# EAGLE library part CC3100MOD (library vincent)
TI CC3000 WiFi Module
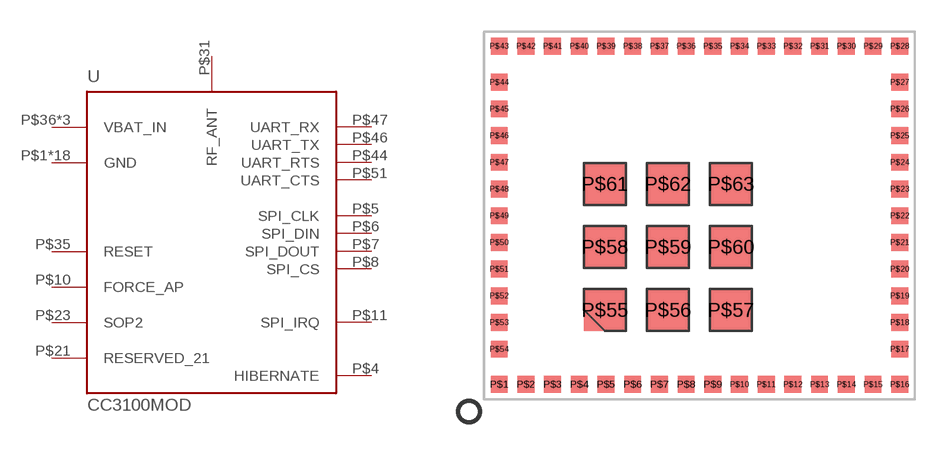
[diagram p9: symbol with the pads of CC3100MOD; footprint CC3100MOD]

Designator prefix -

## CC3100MOD  [CC3100MOD]
P$1  GND
P$2  GND
P$4  HIBERNATE
P$5  SPI_CLK
P$6  SPI_DIN
P$7  SPI_DOUT
P$8  SPI_CS
P$10  FORCE_AP
P$11  SPI_IRQ
P$16  GND
P$21  RESERVED_21
P$23  SOP2
P$27  GND
P$28  GND
P$30  GND
P$31  RF_ANT
P$32  GND
P$35  RESET
P$36  VBAT_IN
P$37  VBAT_IN
P$38  GND
P$40  VBAT_IN
P$43  GND
P$44  UART_RTS
P$46  UART_TX
P$47  UART_RX
P$51  UART_CTS
P$55  GND
P$56  GND
P$57  GND
P$58  GND
P$59  GND
P$60  GND
P$61  GND
P$62  GND
P$63  GND

## Footprint CC3100MOD (pad centres in mm)
smd 0.8 x 0.8: P$1 -9.525,-8.045; P$2 -8.255,-8.045; P$3 -6.985,-8.045; P$4 -5.715,-8.045; P$5 -4.445,-8.045; P$6 -3.175,-8.045; P$7 -1.905,-8.045; P$8 -0.635,-8.045; P$9 0.635,-8.045; P$10 1.905,-8.045; P$11 3.175,-8.045; P$12 4.445,-8.045; P$13 5.715,-8.045; P$14 6.985,-8.045; P$15 8.255,-8.045; P$16 9.525,-8.045; P$17 9.525,-6.365; P$18 9.525,-5.095; P$19 9.525,-3.825; P$20 9.525,-2.555; P$21 9.525,-1.285; P$22 9.525,-0.015; P$23 9.525,1.255; P$24 9.525,2.525; P$25 9.525,3.795; P$26 9.525,5.065; P$27 9.525,6.335; P$28 9.525,8.055; P$29 8.255,8.055; P$30 6.985,8.055; P$31 5.715,8.055; P$32 4.445,8.055; P$33 3.175,8.055; P$34 1.905,8.055; P$35 0.635,8.055; P$36 -0.635,8.055; P$37 -1.905,8.055; P$38 -3.175,8.055; P$39 -4.445,8.055; P$40 -5.715,8.055; P$41 -6.985,8.055; P$42 -8.255,8.055; P$43 -9.525,8.055; P$44 -9.525,6.335; P$45 -9.525,5.065; P$46 -9.525,3.795; P$47 -9.525,2.525; P$48 -9.525,1.255; P$49 -9.525,-0.015; P$50 -9.525,-1.285; P$51 -9.525,-2.555; P$52 -9.525,-3.825; P$53 -9.525,-5.095; P$54 -9.525,-6.365
smd 2 x 2: P$55 -4.5,-4.5; P$56 -1.5,-4.5; P$57 1.5,-4.5; P$58 -4.5,-1.5; P$59 -1.5,-1.5; P$60 1.5,-1.5; P$61 -4.5,1.5; P$62 -1.5,1.5; P$63 1.5,1.5